# EAGLE library part 687308124422 (library Eagle_FPC_CONNECTOR_AND_FFC_CAB (rev18c))
WR-FPC-0.50mm SMT ZIF Vertical Type A,pins 8 Pins=>Code : Con_FPC_ZIF_0.50_687308124422 <http://katalog.we-online.de/media/images/eican/Con_FPC_ZIF_0.50_6873xx124422_pf2.jpg> Details see: http://katalog.we-online.de/en/em/687_3xx_124_422 Created 2014-07-09, Karrer Zheng 2014 (C) Würth Elektronik
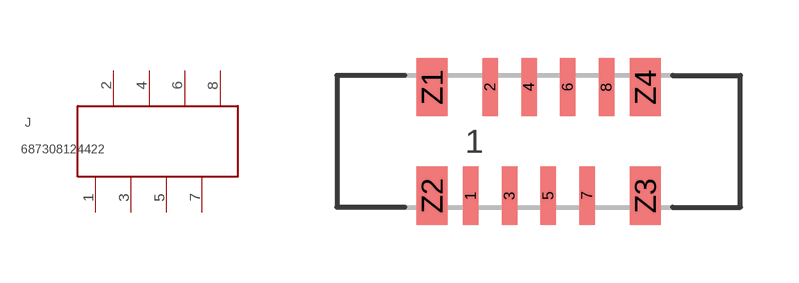
[diagram p74: symbol with the pads of 687308124422; footprint 687308124422]

Designator prefix J

## 687308124422  [687308124422]
1  1  pas
2  2  pas
3  3  pas
4  4  pas
5  5  pas
6  6  pas
7  7  pas
8  8  pas

## Footprint 687308124422 (pad centres in mm)
WR-FPC-0.50mm SMT ZIF Vertical Type A,pins 8
smd 0.4 x 1.5: 1 -1.75,-1.4; 2 -1.25,1.4; 3 -0.75,-1.4; 4 -0.25,1.4; 5 0.25,-1.4; 6 0.75,1.4; 7 1.25,-1.4; 8 1.75,1.4
smd 0.8 x 1.5: Z1 -2.75,1.4; Z2 -2.75,-1.4; Z3 2.75,-1.4; Z4 2.75,1.4